# Altium schematic symbol library MergenElektronik_Modules_GPS.SchLib: 1 symbol
Pins are listed as number, name and electrical type; pins without a type are passive.

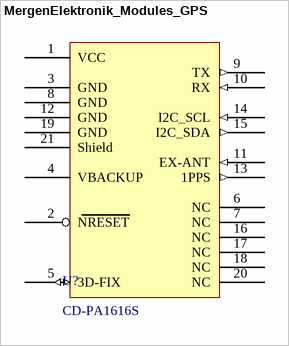
[diagram p0: symbol MergenElektronik_Modules_GPS]

## MergenElektronik_Modules_GPS
designator U?, comment CD-PA1616S
Mergen Elektronik -  Modules - GPS - CD-PA1616S; Manufacturer: Adafruit; Manufacturer Number: 790; Model: GPS Module; Update Rate: 1Hz up to 10 Hz; Tolerance: < 3 meters; Operating Supply Voltage: 3.0 up to 5.5VDC; Package: CD-PA1616S; Temperature: -40 °C  up to +85 °C; Mounting Type: Surface Mount; Value: CD-PA1616S
footprint MergenElektronik_Modules_GPS_CD-PA1616S (CD-PA1616S)
pins: 1 VCC (power), 2 NRESET, 3 GND (power), 4 VBACKUP (power), 5 3D-FIX (io), 6 NC, 7 NC, 8 GND (power), 9 TX (out), 10 RX (in), 11 EX-ANT (in), 12 GND (power), 13 1PPS (out), 14 I2C_SCL (in), 15 I2C_SDA (out), 16 NC, 17 NC, 18 NC, 19 GND (power), 20 NC, 21 Shield (power)